# Altium footprint library Communication.PcbLib: 14 footprints
Each footprint in its own frame and in the unit in brackets; x right, y up, seen from the top. Pads: shape width x height; smd on the part's side, far side on the other; paste and mask are expansions set on the pad; w line width, h text height; cw(c..) or ccw(c..) is an arc to the next point about the centre after c.
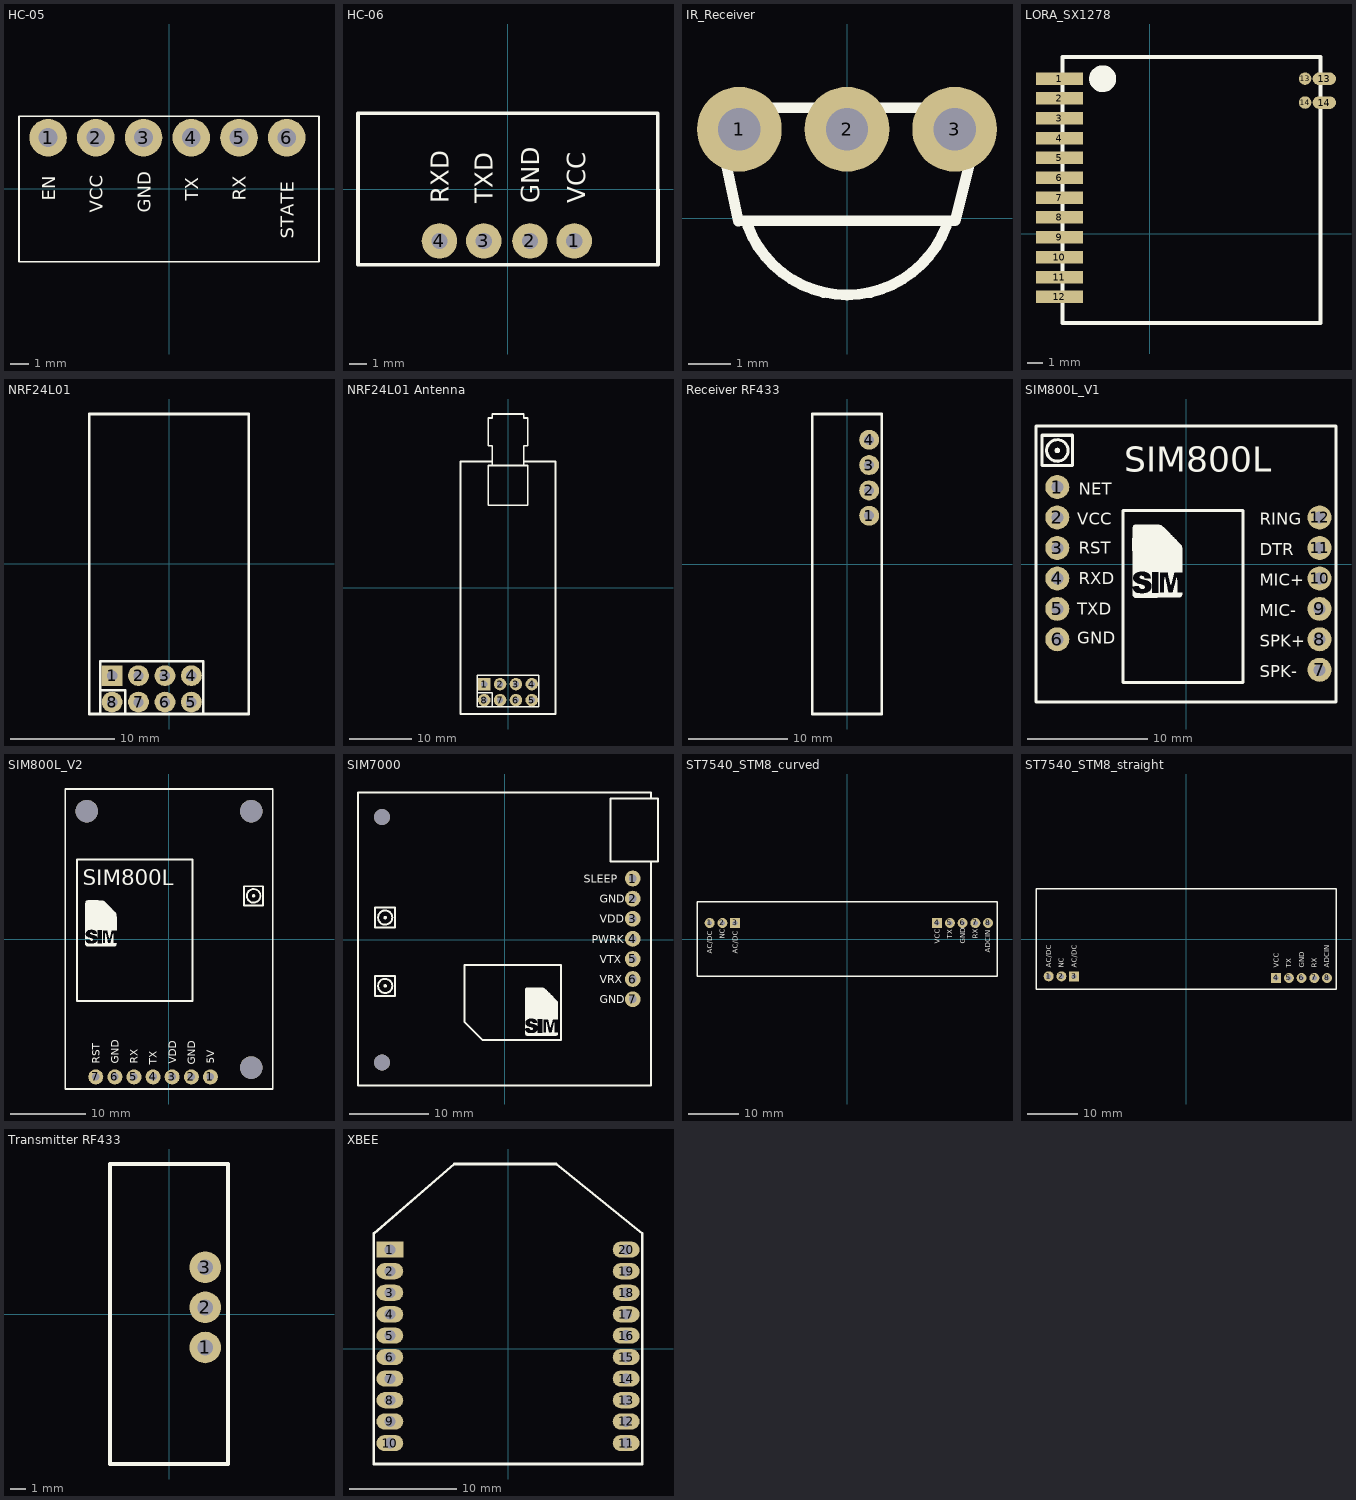
[diagram p0: the footprints below, top view; thin cyan lines are the x and y axes]

## HC-05 [mm] "BLUETOOTH MODULE"
pads (6):
  round 2 hole 1: 1(-6.447,2.734) 2(-3.907,2.734) 3(-1.367,2.734) 4(1.173,2.734) 5(3.713,2.734) 6(6.253,2.733)
Top Overlay:
  lines w0.1: -7.997,-3.87 -7.997,3.87 ; -7.971,-3.87 7.971,-3.87 7.971,3.87 -7.971,3.87
  text "VCC" at -3.535,-1.261 h0.7
  text "EN" at -6.075,-0.626 h0.7
  text "STATE" at 6.625,-2.658 h0.7
  text "RX" at 4.085,-0.626 h0.7
  text "TX" at 1.545,-0.626 h0.7
  text "GND" at -0.995,-1.261 h0.7
3D body "HC-05.STEP": height 37.26, standoff -5.57, extent -8.03,-3.819 7.97,2.981

## HC-06 [mm] "BLUETOOTH MODULE"
pads (4):
  round 2 hole 0.914: 1(3.745,-2.926) 2(1.246,-2.926) 3(-1.355,-2.926) 4(-3.854,-2.926)
Top Overlay:
  lines w0.2: -8.447,-4.268 -8.447,4.268 8.447,4.268 8.469,-4.268 -8.447,-4.268
  text "VCC" at 4.362,-0.816 h1
  text "GND" at 1.766,-0.816 h1
  text "TXD" at -0.84,-0.8 h1
  text "RXD" at -3.339,-0.8 h1
3D body "HC-06.step": height 37.5, standoff -6.22, extent -8.538,-3.3 8.462,4.22

## IR_Receiver [mm] "INFRARED RECEIVER SENSOR"
pads (3):
  round 2 hole 1: 1(-2.54,2.095) 2(0,2.095) 3(2.54,2.095)
Top Overlay:
  lines w0.254: -2.565,-0.068 -3.051,2.21 -2.952,2.601 2.902,2.601 3.064,1.962 2.551,-0.064 1.981,-0.064 -2.032,-0.064 -2.515,-0.064 ; -2.34,-0.193 ccw(c0,0.686) 2.341,-0.193
3D body "IR_receiver.STEP": height 9, standoff -21, extent -2.877,-2.225 2.903,2.575

## LORA_SX1278 [mm]
pads (16):
  rect 3x0.8 smd paste+0 mask+0.051: 1(-5.77,9.92) 2(-5.77,8.65) 3(-5.77,7.38) 4(-5.77,6.11) 5(-5.77,4.84) 6(-5.77,3.57) 7(-5.77,2.3) 8(-5.77,1.03) 9(-5.77,-0.24) 10(-5.77,-1.51) 11(-5.77,-2.78) 12(-5.77,-4.05)
  round 0.8 smd paste+0.3: 13(9.948,9.91) 14(9.948,8.386)
  oval 1.5x0.8 smd paste+0: 13(11.176,9.906) 14(11.176,8.382)
Top Overlay:
  circle w1: c-3.006,9.91 r0.359
  lines w0.254: -5.588,-5.715 -5.588,11.303 10.922,11.303 10.922,-5.715 -5.588,-5.715
3D body "LORA_SX1278.STEP": height 2.2, standoff 0.02, extent -5.588,-5.705 10.93,11.293

## NRF24L01 [mm] "MÓDULO TRANSCEPTOR RF WIRELESS 2.4GHZ"
pads (8):
  rect 2x2 hole 1: 1(-5.467,-10.733)
  round 2 hole 1: 2(-2.93,-10.733) 3(-0.39,-10.733) 4(2.15,-10.733) 5(2.15,-13.273) 6(-0.39,-13.273) 7(-2.93,-13.273) 8(-5.47,-13.273)
Top Overlay:
  lines w0.254: -6.613,-12.13 -4.2,-12.142 -4.2,-14.416 ; -7.65,-14.413 -7.65,14.413 7.65,14.413 7.65,-14.413 -7.65,-14.413 ; -6.613,-14.416 3.293,-14.416 3.293,-9.336 -6.613,-9.336 -6.613,-14.416
3D body "radio.STEP": height 7.1, standoff -5.8, extent -7.532,-14.413 7.768,14.537

## NRF24L01 Antenna [mm] "MÓDULO TRANSCEPTOR RF WIRELESS 2.4GHZ W/ ANTENNA"
pads (8):
  rect 2x2 hole 1: 1(-3.81,-15.455)
  round 2 hole 1: 2(-1.27,-15.455) 3(1.27,-15.455) 4(3.81,-15.455) 5(3.81,-17.995) 6(1.27,-17.995) 7(-1.27,-17.995) 8(-3.81,-17.995)
Top Overlay:
  lines w0.254: -4.961,-16.803 -2.548,-16.814 -2.548,-19.089 ; -2.54,19.597 2.54,19.597 ; -2.54,19.597 -3.175,19.597 -3.175,13.247 3.175,13.247 3.175,19.597 2.54,19.597 ; -2.54,19.597 -2.54,20.232 ; -2.54,20.232 -7.62,20.232 -7.62,-20.232 7.62,-20.232 7.62,20.232 2.54,20.232 ; -2.54,20.232 -2.54,22.772 -3.175,22.772 -3.175,27.217 -2.54,27.217 -2.54,27.852 2.54,27.852 2.54,27.217 3.175,27.217 3.175,22.772 2.54,22.772 2.54,20.232 ; 2.54,19.597 2.54,20.232 ; -4.961,-19.089 4.945,-19.089 4.945,-14.009 -4.961,-14.009 -4.961,-19.089
3D body "NRF24L01_Antenna.STEP": height 93.05, standoff -5.64, extent -7.63,-20.232 7.62,53.734

## Receiver RF433 [mm] "RF RECEIVER MODULE 433MGZ"
pads (4):
  round 2 hole 1: 1(2.227,4.844) 2(2.227,7.384) 3(2.227,9.924) 4(2.227,12.464)
Top Overlay:
  lines w0.254: -3.493,-15.05 3.492,-15.05 3.492,15.05 -3.493,15.05 -3.493,-15.05
3D body "Receiver RF.step": height 14.05, standoff -5.35, extent -3.366,-15.164 2.784,15.037

## SIM800L_V1 [mm]
pads (12):
  round 2 hole 1 paste-2539.97 mask+0.051: 1(-10.731,6.42) 2(-10.731,3.88) 3(-10.731,1.34) 4(-10.731,-1.2) 5(-10.731,-3.74) 6(-10.731,-6.28) 7(11.138,-8.82) 8(11.138,-6.28) 9(11.138,-3.74) 10(11.138,-1.2) 11(11.138,1.34) 12(11.138,3.88)
Top Overlay:
  drawing of 15 lines, arcs and shapes, not listed
  text "GND" at -9.08,-6.653 h1
  text "TXD" at -9.08,-4.24 h1
  text "RXD" at -8.954,-1.7 h1
  text "RST" at -8.954,0.84 h1
  text "VCC" at -9.08,3.253 h1
  text "NET" at -8.954,5.793 h1
  text "SIM800L" at -5.138,7.674 h2.1
  text "RING" at 6.159,3.253 h1
  text "DTR" at 6.159,0.713 h1
  text "MIC+" at 6.159,-1.827 h1
  text "MIC-" at 6.159,-4.367 h1
  text "SPK+" at 6.159,-6.907 h1
  text "SPK-" at 6.159,-9.447 h1
3D body "SIM800L_V1.SLDPRT": height 6.91, standoff -5.49, extent -12.492,-11.579 12.526,11.421

## SIM800L_V2 [mm]
pads (10):
  round 2 hole 1 paste-2539.97 mask+0.051: 1(5.506,-18.331) 2(2.966,-18.331) 3(0.426,-18.331) 4(-2.114,-18.331) 5(-4.654,-18.331) 6(-7.194,-18.331) 7(-9.734,-18.331)
  round 3 hole 3 unplated paste-2539.97: ""(-10.929,16.989) ""(10.93,-17.089) ""(10.93,16.989)
Top Overlay:
  drawing of 15 lines, arcs and shapes, not listed
  text "GND" at 3.48,-16.688 h1
  text "RST" at -9.22,-16.561 h1
  text "RX" at -4.14,-16.561 h1
  text "TX" at -1.6,-16.688 h1
  text "VDD" at 0.94,-16.561 h1
  text "GND" at -6.68,-16.561 h1
  text "SIM800L" at -11.488,7.118 h2.1
  text "5V" at 6.02,-16.561 h1
3D body "SIM800L_V2.SLDPRT": height 8.01, standoff -5.75, extent -13.779,-19.939 13.791,19.911

## SIM7000 [mm]
pads (9):
  round 2 hole 1 paste-2539.97 mask+0.102: 1(16.158,7.725) 2(16.158,5.185) 3(16.158,2.645) 4(16.158,0.105) 5(16.158,-2.435) 6(16.158,-4.975) 7(16.158,-7.515)
  round 2 hole 2 unplated paste-2539.97: ""(-15.506,-15.519) ""(-15.506,15.481)
Top Overlay:
  drawing of 27 lines, arcs and shapes, not listed
  text "SLEEP" at 9.991,7.188 h1
  text "GND" at 11.99,4.648 h1
  text "VDD" at 11.99,2.108 h1
  text "PWRK" at 10.99,-0.432 h1
  text "VTX" at 11.99,-2.972 h1
  text "VRX" at 11.99,-5.512 h1
  text "GND" at 12.002,-8.052 h1
3D body "SIM7000.STEP": height 7.35, standoff -5.99, extent -18.619,-18.415 19.381,18.585

## ST7540_STM8_curved [mm]
pads (8):
  round 2 hole 1: 1(-27.46,3.208) 2(-24.92,3.208) 5(20.58,3.208) 6(23.12,3.208) 7(25.66,3.208) 8(28.2,3.208)
  rect 2x2 hole 1: 3(-22.38,3.208) 4(18.04,3.208)
Top Overlay:
  lines w0.254: -30,-7.493 30,-7.493 30,7.493 -30,7.493 -30,-7.493
  text "NC" at -24.42,0.036 h1
  text "ADCIN" at 28.7,-2.797 h1
  text "RX" at 26.16,0.036 h1
  text "GND" at 23.62,-0.964 h1
  text "TX" at 21.08,0.036 h1
  text "VCC" at 18.54,-0.964 h1
  text "AC/DC" at -21.88,-2.963 h1
  text "AC/DC" at -26.96,-2.963 h1
3D body "ST7540_STM8_curved.STEP": height 21.9, standoff -7.94, extent -29.972,-7.507 40.268,7.493

## ST7540_STM8_straight [mm]
pads (8):
  round 2 hole 1: 1(-27.46,-7.46) 2(-24.92,-7.46) 5(20.58,-7.8) 6(23.12,-7.8) 7(25.66,-7.8) 8(28.2,-7.8)
  rect 2x2 hole 1: 3(-22.38,-7.46) 4(18.04,-7.8)
Top Overlay:
  lines w0.254: -30,-10 30,-10 30,10 -30,10 -30,-10
  text "AC/DC" at -26.96,-5.797 h1
  text "AC/DC" at -21.88,-5.797 h1
  text "VCC" at 18.54,-5.797 h1
  text "TX" at 21.08,-5.797 h1
  text "GND" at 23.62,-5.797 h1
  text "RX" at 26.16,-5.797 h1
  text "ADCIN" at 28.7,-5.797 h1
  text "NC" at -24.42,-5.797 h1
3D body "ST7540_STM8_straight.x_t": height 15.6, standoff -6, extent -30,-10 30,10

## Transmitter RF433 [mm] "RF TRANSMITTER MODULE 433MGZ"
pads (3):
  round 2 hole 1: 1(2.294,-2.12) 2(2.294,0.42) 3(2.294,2.96)
Top Overlay:
  lines w0.254: -3.746,-9.5 -3.746,9.5 3.746,9.5 3.746,-9.5 -3.746,-9.5
3D body "Transmitter RF433.step": height 22, standoff -6.61, extent -3.619,-9.615 3.726,9.495

## XBEE [mm] "RF TRANSCEIVER MODULE 2.4GHZ"
pads (20):
  rect 2.5x1.5 hole 1: 1(-10.998,9.231)
  oval 2.5x1.5 hole 1: 2(-10.998,7.224) 3(-10.998,5.218) 4(-10.998,3.211) 5(-10.998,1.23) 6(-10.998,-0.777) 7(-10.998,-2.783) 8(-10.998,-4.79) 9(-10.998,-6.771) 10(-10.998,-8.778) 11(10.998,-8.778) 12(10.998,-6.771) 13(10.998,-4.79) 14(10.998,-2.783) 15(10.998,-0.777) 16(10.998,1.23) 17(10.998,3.211) 18(10.998,5.218) 19(10.998,7.224) 20(10.998,9.231)
Top Overlay:
  lines w0.254: -12.497,-10.729 12.497,-10.729 12.497,10.729 4.496,17.206 -5.004,17.206 -12.497,10.729 -12.497,-10.729
3D body "XBEE.STEP": height 5.61, standoff -5.46, extent -12.159,-10.691 12.225,16.918